# Altium footprint library CONNECTOR_USB.PcbLib: 6 footprints
Each footprint in its own frame and in the unit in brackets; x right, y up, seen from the top. Pads: shape width x height; smd on the part's side, far side on the other; paste and mask are expansions set on the pad; w line width, h text height; cw(c..) or ccw(c..) is an arc to the next point about the centre after c.
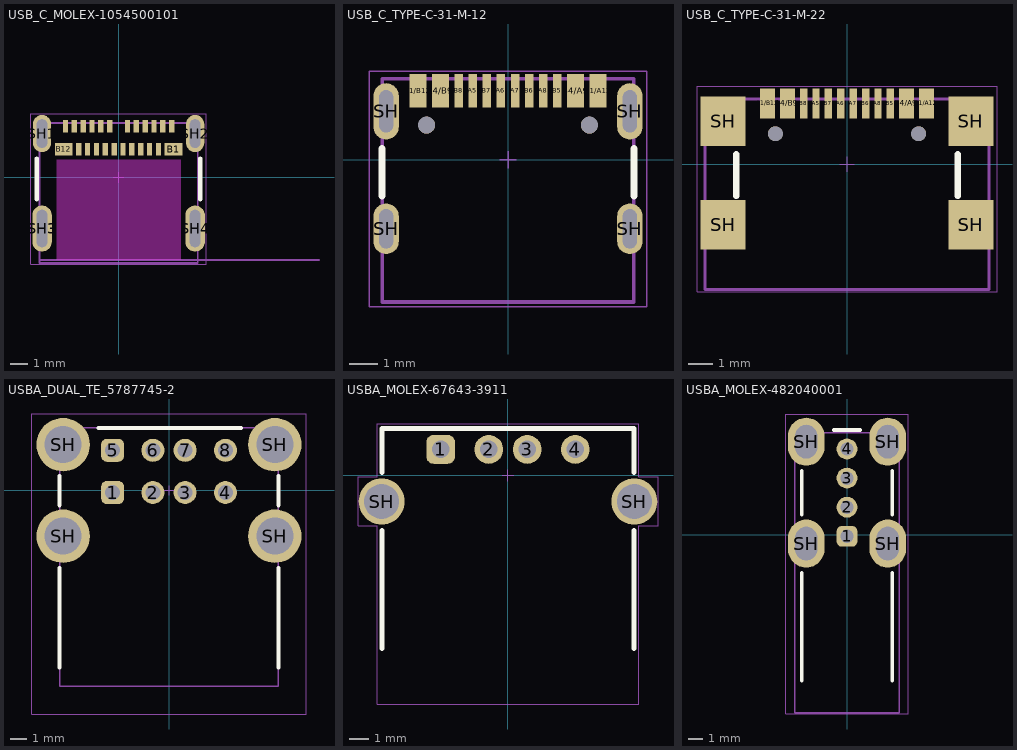
[diagram p0: the footprints below, top view; thin cyan lines are the x and y axes]

## USB_C_MOLEX-1054500101 [mm]
height 3.24
pads (28):
  rect 0.298x0.7 smd mask+0.064: A1(-3,2.885) A2(-2.5,2.885) A3(-2,2.885) A4(-1.5,2.885) A5(-1,2.885) A6(-0.5,2.885) A7(0.5,2.885) A8(1,2.885) A9(1.5,2.885) A10(2,2.885) A11(2.5,2.885) A12(3,2.885) B2(2.25,1.585) B3(1.75,1.585) B4(1.25,1.585) B5(0.75,1.585) B6(0.25,1.585) B7(-0.25,1.585) B8(-0.75,1.585) B9(-1.25,1.585) B10(-1.75,1.585) B11(-2.25,1.585)
  rect 0.998x0.7 smd mask+0.064: B1(3.1,1.585) B12(-3.1,1.585)
  oval 1.036x2.1 hole 0.6 slot 1.6 at 90 deg mask+0.064: SH1(-4.32,2.475) SH2(4.32,2.475)
  oval 1.1x2.6 hole 0.6 slot 2.1 at 90 deg mask+0.064: SH3(-4.32,-2.885) SH4(4.32,-2.885)
Top Overlay:
  lines w0.25: -4.62,-1.235 -4.62,1.065 ; 4.62,-1.235 4.62,1.065
Keep-Out Layer:
  region: 3.5,-4.655 -3.5,-4.655 -3.5,0.995 3.5,0.995
Mechanical 13:
  lines w0.1: -4.47,-4.655 4.47,-4.655 ; 11.31,-4.655 4.47,-4.655 ; 4.47,-4.655 4.47,3.065 -4.47,3.065 -4.47,-4.835 4.47,-4.835 4.47,-4.655
  text "PCB Edge" at 5.4,-4.385 h1
Mechanical 15:
  lines w0.05: -0.3,0 0.3,0 ; 0,-0.3 0,0.3 ; -4.953,-4.909 -4.953,3.6 4.953,3.6 4.953,-4.909 -4.953,-4.909
3D body "USBC_MOLEX-1054500101.stp": height 3.23, standoff -0.73, extent -4.47,-4.827 4.47,3.073

## USB_C_TYPE-C-31-M-12 [mm]
height 3.26
pads (18):
  rect 0.6x1.2 smd mask+0.05: A1/B12(-3.2,2.45) A4/B9(-2.4,2.45) B1/A12(3.2,2.45) B4/A9(2.4,2.45)
  rect 0.3x1.2 smd mask+0.05: A5(-1.25,2.45) A6(-0.25,2.45) A7(0.25,2.45) A8(1.25,2.45) B5(1.75,2.45) B6(0.75,2.45) B7(-0.75,2.45) B8(-1.75,2.45)
  oval 0.9x1.8 hole 0.5 slot 1.4 at 90 deg: SH(-4.325,-2.45) SH(4.325,-2.45)
  oval 0.9x2 hole 0.5 slot 1.5 at 90 deg: SH(-4.325,1.72) SH(4.325,1.72)
  round 0.6 hole 0.6: ""(-2.89,1.23) ""(2.89,1.23)
Top Overlay:
  lines w0.25: -4.47,-1.28 -4.47,0.4 ; 4.47,-1.28 4.47,0.4
Mechanical 13:
  lines w0.127: -4.47,-5.05 4.47,-5.05 4.47,2.875 -4.47,2.875 -4.47,-5.05
Mechanical 15:
  lines w0.05: -0.3,0 0.3,0 ; 0,-0.3 0,0.3 ; -4.925,-5.225 4.925,-5.225 4.925,3.15 -4.925,3.15 -4.925,-5.225
3D body "TYPE-C-31-M-12.step": height 3.24, standoff -0.96, extent -4.475,-5.025 4.475,2.875

## USB_C_TYPE-C-31-M-22 [mm]
height 3.26
pads (18):
  rect 0.6x1.2 smd mask+0.05: A1/B12(-3.2,2.45) A4/B9(-2.4,2.45) B1/A12(3.2,2.45) B4/A9(2.4,2.45)
  rect 0.3x1.2 smd mask+0.05: A5(-1.25,2.45) A6(-0.25,2.45) A7(0.25,2.45) A8(1.25,2.45) B5(1.75,2.45) B6(0.75,2.45) B7(-0.75,2.45) B8(-1.75,2.45)
  rect 1.8x2 smd: SH(-5,-2.445) SH(-5,1.725) SH(5,-2.445) SH(5,1.725)
  round 0.6 hole 0.6: ""(-2.89,1.23) ""(2.89,1.23)
Top Overlay:
  lines w0.25: -4.47,-1.28 -4.47,0.4 ; 4.47,-1.28 4.47,0.4
Mechanical 13:
  lines w0.127: -5.725,-5.05 5.725,-5.05 5.725,2.625 -5.725,2.625 -5.725,-5.05
Mechanical 15:
  lines w0.05: -0.3,0 0.3,0 ; 0,-0.3 0,0.3 ; -6.05,-5.15 6.05,-5.15 6.05,3.15 -6.05,3.15 -6.05,-5.15
3D body "TYPE-C-31-M-22.step": height 3.18, standoff -0.73, extent -5.72,-5.055 5.72,2.625

## USBA_DUAL_TE_5787745-2 [mm]
pads (12):
  rrect50% 1.428x1.428 hole 0.92: 1(-3.5,-0.13) 5(-3.5,2.49)
  round 1.428 hole 0.92: 2(-1,-0.13) 3(1,-0.13) 4(3.5,-0.13) 6(-1,2.49) 7(1,2.49) 8(3.5,2.49)
  round 3.316 hole 2.3: SH(-6.57,-2.84) SH(-6.57,2.84) SH(6.57,-2.84) SH(6.57,2.84)
Top Overlay:
  lines w0.25: -6.783,-11 -6.783,-4.82 ; -6.783,-0.92 -6.783,0.88 ; -4.365,3.88 4.465,3.88 ; 6.783,-11 6.783,-4.82 ; 6.783,-0.92 6.783,0.88
Mechanical 13:
  lines w0.1: -6.783,-12.15 6.783,-12.15 6.783,3.88 -6.783,3.88 -6.783,-12.15
Mechanical 15:
  lines w0.05: -0.3,0 0.3,0 ; 0,-0.3 0,0.3 ; -8.5,-13.87 8.5,-13.87 8.5,4.74 -8.5,4.74 -8.5,-13.87
3D body "usb double.STEP": height 15.69, standoff -3.06, extent -7.798,-13.575 7.798,4.345

## USBA_MOLEX-67643-3911 [mm]
pads (6):
  rrect50% 1.5x1.5 hole 0.9: 1(-3.5,1.355)
  round 1.5 hole 0.9: 2(-1,1.355) 3(1,1.355) 4(3.5,1.355)
  round 2.4 hole 1.8 unplated: SH(-6.57,-1.355) SH(6.57,-1.355)
Top Overlay:
  lines w0.25: -6.55,-9 -6.55,-2.855 ; -6.55,0.145 -6.55,2.445 6.55,2.445 6.55,0.145 ; 6.55,-9 6.55,-2.855
Mechanical 15:
  lines w0.05: -0.3,0 0.3,0 ; 0,-0.3 0,0.3 ; -7.8,-2.605 -7.8,-0.055 -6.8,-0.055 -6.8,2.695 6.8,2.695 6.8,-0.055 7.8,-0.055 7.8,-2.605 6.8,-2.605 6.8,-11.905 -6.8,-11.905 -6.8,-2.605 -7.8,-2.605
3D body "USB-A1HSW6--3DModel-STEP-56544.STEP": height 7.76, standoff -3.04, extent -7.9,-11.6 7.9,2.5

## USBA_MOLEX-482040001 [mm]
pads (8):
  rrect50% 1.428x1.428 hole 0.92: 1(0,-0.1)
  round 1.428 hole 0.92: 2(0,1.9) 3(0,3.9) 4(0,5.9)
  oval 2.5x3.3 hole 1.5 slot 2.3 at 90 deg: SH(-2.8,-0.6) SH(-2.8,6.4) SH(2.8,-0.6) SH(2.8,6.4)
Top Overlay:
  lines w0.25: -3.1,-10 -3.1,-2.6 ; -3.1,1.4 -3.1,4.4 ; -0.9,7.2 0.9,7.2 ; 3.1,-10 3.1,-2.6 ; 3.1,1.4 3.1,4.4
Mechanical 13:
  lines w0.1: -3.6,-12.2 3.6,-12.2 3.6,7 -3.6,7 -3.6,-12.2
Mechanical 15:
  lines w0.05: -0.3,0 0.3,0 ; 0,-0.3 0,0.3 ; -4.2,-12.3 4.2,-12.3 4.2,8.3 -4.2,8.3 -4.2,-12.3
3D body "USB-type-A(USBR-A-S-F-O-VU).STEP": height 13.9, standoff -4.42, extent -3.6,-12.2 3.6,7